# EAGLE library part 665306124022 (library WR-WTB)
WR-WTB 1.00 mm SMT Male Vertical Shrouded Header Material Properties Insulator Material LCP Insulator Flammability Rating UL94 V-0 Color Beige Contact Material Phosphor Bronze Contact Plating Tin Contact Type Stamped Certification UL Approval E323964 General Information Operating Temperature -25 °C up to +85 °C Compliance RoHS IR 1 A Working Voltage 50 V (AC) Withstanding Voltage 500 V (AC) Contact Resistance 20 mΩ RISO 100 MΩ Pitch 1 mm Gender Male Type Vertical Packaging Properties Packaging Tape and Reel with Cap <https://www.we-online.com/components/media/o58873v209%206653xx124022_Multi-Parts.jpg> Details see: www.we-online.com/en/components/products/WTB_1_00_SMT_MALE_VERTICAL_SHROUDED_HEADER_6653XX124022 <www.we-online.com/catalog/WTB_1_00_SMT_MALE_HORIZONTAL_SHROUDED_HEADER_6651XX131822/?utm_source=eagle_model&utm_medium=description_link&utm_campaign=eisos_eagle> Updated by Ella 2025-03-06 2025 (C) Würth Elektronik
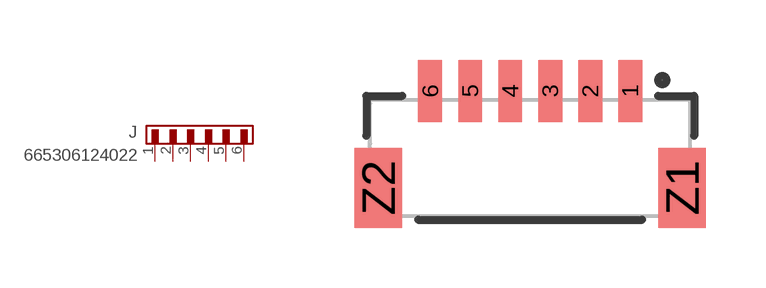
[diagram p71: symbol with the pads of 665306124022; footprint 665306124022]

Designator prefix J

## 665306124022 (CONTACT-RESISTANCE: 20mOhm; DATASHEET-URL: https://www.we-online.com/redexpert/spec/665306124022?ae; GENDER: Male; IR: 1A; L: 8mm; MOUNT: SMT; PACKAGING: Tape and Reel with Cap; PART-NUMBER: 665306124022; PCB-CABLE-PANEL: PCB; PINS: 6; PITCH: 1mm; TYPE: Vertical; VALUE: 665306124022; WORKING-VOLTAGE: 50V(AC))  [665306124022]
1  1  pas
2  2  pas
3  3  pas
4  4  pas
5  5  pas
6  6  pas

## Footprint 665306124022 (pad centres in mm)
WR-WTB 1.00 mm SMT Male Vertical Shrouded Header, 6 pins
smd 0.6 x 1.55: 1 2.5,1.725; 2 1.5,1.725; 3 0.5,1.725; 4 -0.5,1.725; 5 -1.5,1.725; 6 -2.5,1.725
smd 1.2 x 2: Z1 3.8,-0.7; Z2 -3.8,-0.7